# Altium footprint library SOTFL50P160X60-8N.PcbLib: 1 footprints
Each footprint in its own frame and in the unit in brackets; x right, y up, seen from the top. Pads: shape width x height; smd on the part's side, far side on the other; paste and mask are expansions set on the pad; w line width, h text height; cw(c..) or ccw(c..) is an arc to the next point about the centre after c.
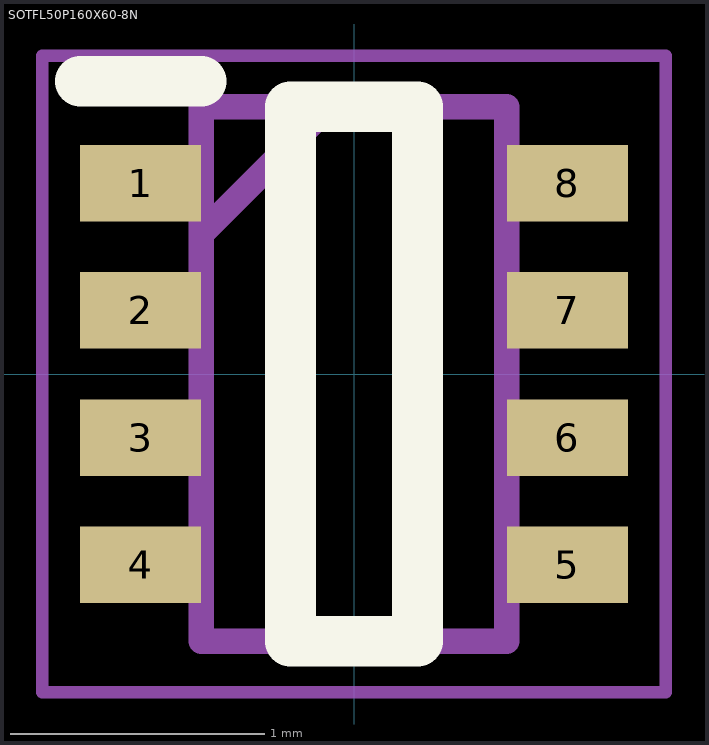
[diagram p0: the footprint, top view; thin cyan lines are the x and y axes]

## SOTFL50P160X60-8N [mm]
pads (8):
  rect 0.475x0.3 smd: 1(-0.838,0.75) 2(-0.838,0.25) 3(-0.838,-0.25) 4(-0.838,-0.75) 5(0.838,-0.75) 6(0.838,-0.25) 7(0.838,0.25) 8(0.838,0.75)
Top Overlay:
  lines w0.2: -1.075,1.15 -0.6,1.15 ; -0.25,-1.05 0.25,-1.05 0.25,1.05 -0.25,1.05 -0.25,-1.05
Mechanical 15:
  lines w0.1: -0.6,0.55 -0.1,1.05 ; -0.6,-1.05 0.6,-1.05 0.6,1.05 -0.6,1.05 -0.6,-1.05
Mechanical 20:
  lines w0.05: -1.225,-1.25 1.225,-1.25 1.225,1.25 -1.225,1.25 -1.225,-1.25